# Altium footprint library 芯片.PcbLib: 4 footprints
Each footprint in its own frame and in the unit in brackets; x right, y up, seen from the top. Pads: shape width x height; smd on the part's side, far side on the other; paste and mask are expansions set on the pad; w line width, h text height; cw(c..) or ccw(c..) is an arc to the next point about the centre after c.
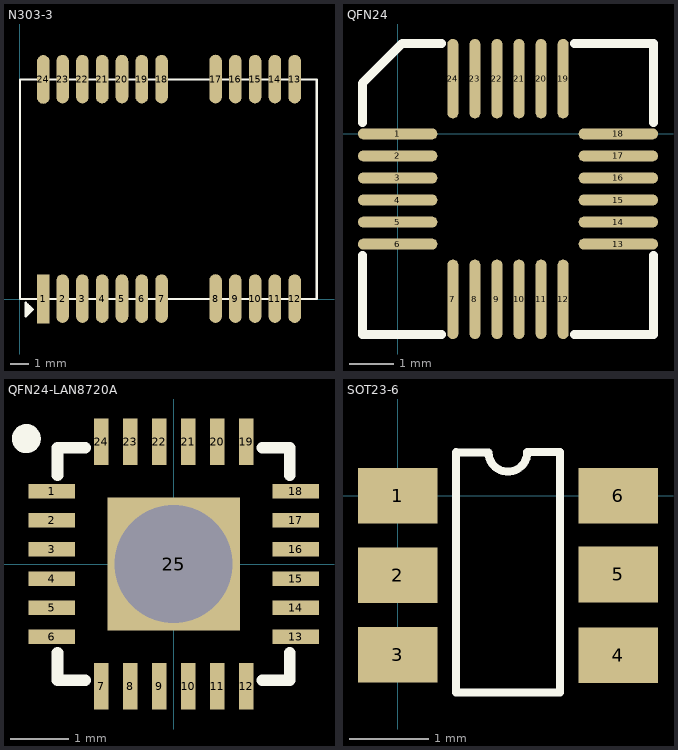
[diagram p0: the footprints below, top view; thin cyan lines are the x and y axes]

## N303-3 [mm]
pads (24):
  rect 0.7x2.7 smd: 1(1.3,0.005)
  oval 0.7x2.7 smd: 2(2.375,0.025) 3(3.475,0.025) 4(4.575,0.025) 5(5.675,0.025) 6(6.775,0.025) 7(7.875,0.025) 8(10.875,0.029) 9(11.975,0.025) 10(13.075,0.025) 11(14.175,0.025) 12(15.275,0.025) 13(15.275,12.225) 14(14.175,12.225) 15(13.075,12.225) 16(11.975,12.225) 17(10.875,12.229) 18(7.875,12.225) 19(6.775,12.225) 20(5.675,12.225) 21(4.575,12.225) 22(3.475,12.225) 23(2.375,12.225) 24(1.3,12.205)
Top Overlay:
  lines w0.127: 0.432,-0.305 0.432,-0.864 0.521,-0.775 ; 0.521,-0.394 0.521,-0.775 ; 0.635,-0.508 0.635,-0.66 0.521,-0.775 ; 0,0 0,12.2 16.5,12.2 16.5,0 0,0 ; 0.33,-0.965 0.33,-0.203 0.711,-0.584 0.33,-0.965

## QFN24 [mm]
pads (24):
  oval 1.8x0.25 smd: 1(0,0) 2(0,-0.5) 3(0,-1) 4(0,-1.5) 5(0,-2) 6(0,-2.5) 13(5,-2.5) 14(5,-2) 15(5,-1.5) 16(5,-1) 17(5,-0.5) 18(5,0)
  oval 0.25x1.8 smd: 7(1.25,-3.75) 8(1.75,-3.75) 9(2.25,-3.75) 10(2.75,-3.75) 11(3.25,-3.75) 12(3.75,-3.75) 19(3.75,1.25) 20(3.25,1.25) 21(2.75,1.25) 22(2.25,1.25) 23(1.75,1.25) 24(1.25,1.25)
Top Overlay:
  lines w0.2: -0.8,-2.75 -0.8,-4.55 1,-4.55 ; -0.8,0.25 -0.8,1.146 0.104,2.05 1,2.05 ; 4,-4.55 5.8,-4.55 5.8,-2.75 ; 4,2.05 5.8,2.05 5.8,0.25

## QFN24-LAN8720A [mm]
pads (25):
  rect 0.8x0.25 smd: 1(-2.101,1.25) 2(-2.101,0.75) 3(-2.101,0.25) 4(-2.101,-0.25) 5(-2.101,-0.75) 6(-2.101,-1.25) 13(2.101,-1.25) 14(2.101,-0.75) 15(2.101,-0.25) 16(2.101,0.25) 17(2.101,0.75) 18(2.101,1.25)
  rect 0.25x0.8 smd: 7(-1.25,-2.101) 8(-0.75,-2.101) 9(-0.25,-2.101) 10(0.25,-2.101) 11(0.75,-2.101) 12(1.25,-2.101) 19(1.25,2.101) 20(0.75,2.101) 21(0.25,2.101) 22(-0.25,2.101) 23(-0.75,2.101) 24(-1.25,2.101)
  rect 2.286x2.286 hole 2.032: 25(0,0)
Top Overlay:
  circle w0.25: c-2.538,2.159 r0.125
  lines w0.2: -2,-1.525 -2,-2 -1.525,-2 ; -2,1.525 -2,2 -1.525,2 ; 1.525,-2 2,-2 2,-1.525 ; 1.525,2 2,2 2,1.525

## SOT23-6 [mm]
pads (6):
  rect 1x0.7 smd: 1(0,0) 2(-0.002,-1) 3(-0.001,-2) 4(2.769,-2.007) 5(2.769,-0.991) 6(2.769,0)
Top Overlay:
  lines w0.102: 2.034,-2.475 0.728,-2.475 0.728,0.545 0.729,0.544 1.139,0.544 ccw(c1.382,0.544) 1.626,0.546 2.035,0.546 ; 2.036,-2.473 2.036,0.545